# Altium schematic symbol library RR0510P-102-D.SchLib: 1 symbol
Pins are listed as number, name and electrical type; pins without a type are passive.

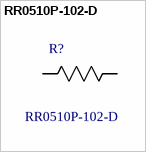
[diagram p0: symbol RR0510P-102-D]

## RR0510P-102-D
designator R?
/ Res Thin Film 0402 1K Ohm 0.5% 0.063W_1/16W_ ?25ppm/C Molded SMD Automotive T/R /; MF: Susumu; SnapEDA_Link: https://www.snapeda.com/parts/RR0510P-102-D/Susumu/view-part/?ref=snap; Availability: Unavailable; Price: None; MP: RR0510P-102-D; Package: 0402 Susumu; Value: *
footprint *RESC1005X40N
pins: 1 R1, 2 R2